# Altium schematic symbol library 2DS627A_4p.Schlib: 1 symbol
Pins are listed as number, name and electrical type; pins without a type are passive.

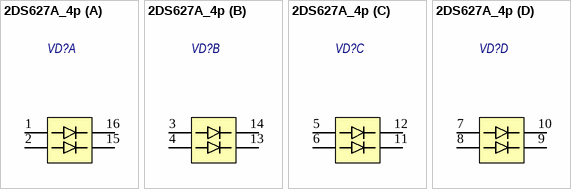
[diagram p0: symbol 2DS627A_4p]

## 2DS627A_4p
designator VD?, comment 2DS627A OSM  (value not drawn)
Диодная матрица; Потребление, Вт: 0,0; Назначение: Диодная матрица; ComponentLink1Description: DataSheet; ComponentLink1URL: https://www.integral.by/sites/default/files/pdf/2ds627a.pdf
footprint 401.16-3
part A pins: 1 1A, 2 1B, 15 2B, 16 2A
part B pins: 3 1C, 4 1D, 13 2D, 14 2C
part C pins: 5 1E, 6 1F, 11 2F, 12 2E
part D pins: 7 1G, 8 1H, 9 2G, 10 2G